# Altium footprint library SPDT_90.PcbLib: 1 footprints
Each footprint in its own frame and in the unit in brackets; x right, y up, seen from the top. Pads: shape width x height; smd on the part's side, far side on the other; paste and mask are expansions set on the pad; w line width, h text height; cw(c..) or ccw(c..) is an arc to the next point about the centre after c.
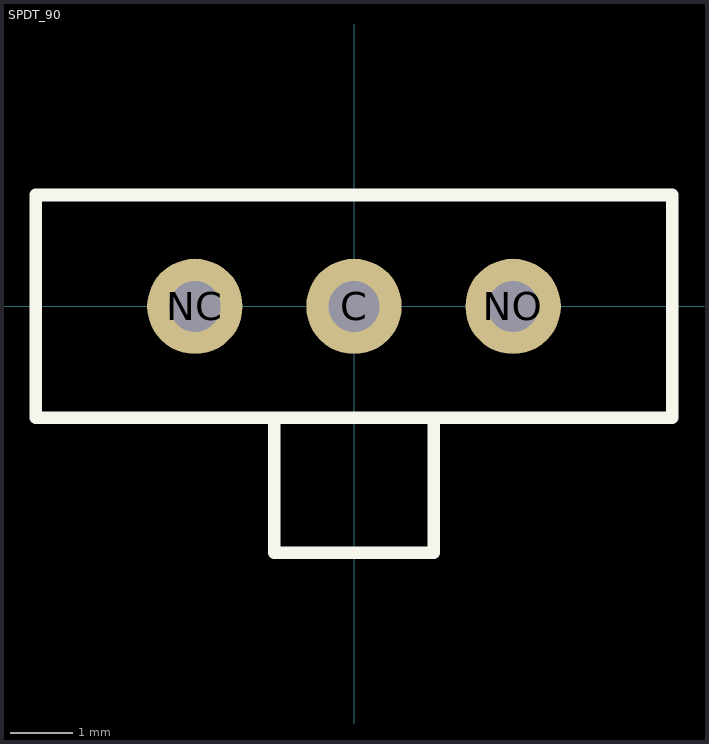
[diagram p0: the footprint, top view; thin cyan lines are the x and y axes]

## SPDT_90 [mil]
pads (3):
  round 60 hole 32: C(0,0) NC(-100,0) NO(100,0)
Top Overlay:
  lines w7.87: -50,-70 -50,-155 50,-155 50,-70
  lines w8: -200,-70 200,-70 200,70 -200,70 -200,-70